# Altium integrated library Memory.IntLib: 1 symbol
Pins are listed as number, name and electrical type; pins without a type are passive.

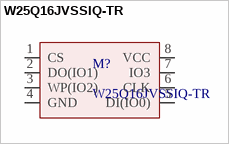
[diagram p0: symbol W25Q16JVSSIQ-TR]

## W25Q16JVSSIQ-TR
designator M?
NOR Flash Serial (SPI, Dual SPI, Quad SPI) 3V/3.3V 16M-bit 2M x 8 6ns 8-Pin SOIC T/R; Manufacturer: Winbond; Manufacturer Part Number: W25Q16JVSSIQ TR; Memory Type: Non-Volatile,FLASH; Memory Size: 16Mb; Frequency: 133MHz; Designed: Ferdi; Supplier 1: Digi-Key; RoHS: Yes; Category: Memory; Stock 1: 166595; Pricing 1: 1=0,56, 10=0,51, 25=0,504, 50=0,501, 100=0,4479, 250=0,44416, 500=0,43758, 1000=0,42193 (USD); Mount: Surface Mount; Case/Package: SOIC; Min Operating Temperature: -40°C; Max Operating Temperature: 85°C; Packaging: Tape and Reel; Series: SpiFlash®; ComponentLink1URL: http://www.winbond.com/resource-files/w25q16jv%20spi%20revg%2003222018%20plus.pdf?src-supplier=Digi-Key; ComponentLink1Description: http://www.winbond.com/resource-files/w25q16jv%20spi%20revg%2003222018%20plus.pdf?src-supplier=Digi-Key; Supplier Part Number 1: W25Q16JVSSIQCT-ND
footprint SOIC8
pins: 1 CS, 2 DO(IO1), 3 WP(IO2), 4 GND, 5 DI(IO0), 6 CLK, 7 IO3, 8 VCC